# Altium schematic symbol library HQ19-2333RGBC.SchLib: 1 symbol
Pins are listed as number, name and electrical type; pins without a type are passive.

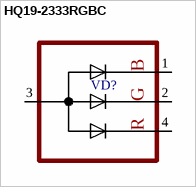
[diagram p0: symbol HQ19-2333RGBC]

## HQ19-2333RGBC
designator VD?
pins: 1, 2, 3, 4
text: B; G; R